# EAGLE library part CONN_04_03 (library dawidkulpa_con)
3x4 connector
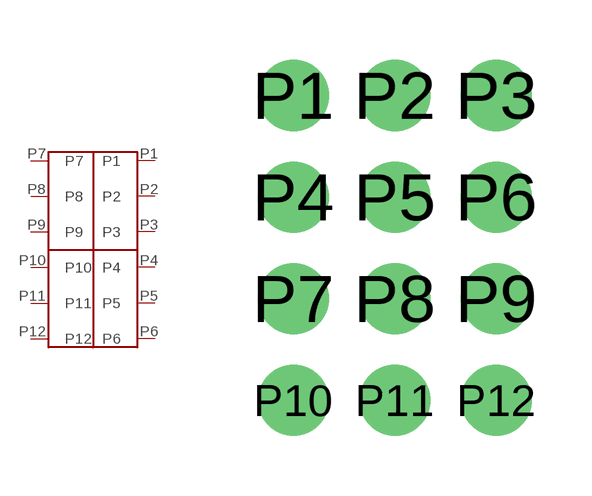
[diagram p4: symbol with the pads of GP_03_04M; footprint GP_03_04M]

Designator prefix -

## CONN_04_03  [GP_03_04M]
P1  P1
P2  P2
P3  P3
P4  P4
P5  P5
P6  P6
P7  P7
P8  P8
P9  P9
P10  P10
P11  P11
P12  P12

## Footprint GP_03_04M (pad centres in mm)
drill 1 pad 1.778: P1 -2.54,3.81; P2 0,3.81; P3 2.54,3.81; P4 -2.54,1.27; P5 0,1.27; P6 2.54,1.27; P7 -2.54,-1.27; P8 0,-1.27; P9 2.54,-1.27; P10 -2.54,-3.81; P11 0,-3.81; P12 2.54,-3.81